# Altium schematic symbol library Microphones.SchLib: 1 symbol
Pins are listed as number, name and electrical type; pins without a type are passive.

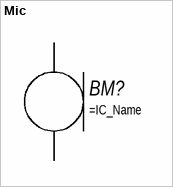
[diagram p0: symbol Mic]

## Mic
designator BM?
pins: 1, 2